# EAGLE library part 1388 (library matriLedWatch)
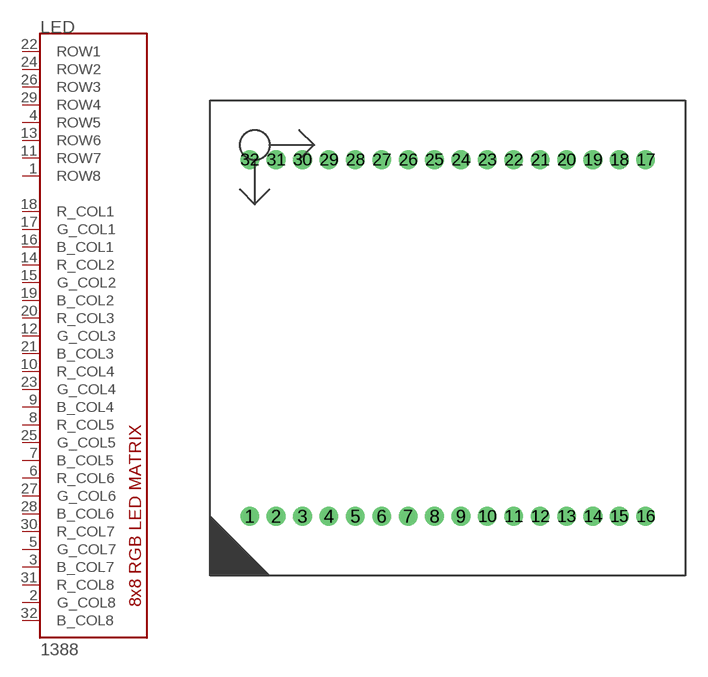
[diagram p0: symbol with the pads of 1388; footprint 1388]

Designator prefix LED

## 1388  [1388]
1  ROW8
2  G_COL8
3  B_COL7
4  ROW5
5  G_COL7
6  R_COL6
7  B_COL5
8  R_COL5
9  B_COL4
10  R_COL4
11  ROW7
12  G_COL3
13  ROW6
14  R_COL2
15  G_COL2
16  B_COL1
17  G_COL1
18  R_COL1
19  B_COL2
20  R_COL3
21  B_COL3
22  ROW1
23  G_COL4
24  ROW2
25  G_COL5
26  ROW3
27  G_COL6
28  B_COL6
29  ROW4
30  R_COL7
31  R_COL8
32  B_COL8

## Footprint 1388 (pad centres in mm)
drill 0.75 round: 1 -13.335,-12; 2 -11.557,-12; 3 -9.779,-12; 4 -8.001,-12; 5 -6.223,-12; 6 -4.445,-12; 7 -2.667,-12; 8 -0.889,-12; 9 0.889,-12; 10 2.667,-12; 11 4.445,-12; 12 6.223,-12; 13 8.001,-12; 14 9.779,-12; 15 11.557,-12; 16 13.335,-12; 17 13.335,12; 18 11.557,12; 19 9.779,12; 20 8.001,12; 21 6.223,12; 22 4.445,12; 23 2.667,12; 24 0.889,12; 25 -0.889,12; 26 -2.667,12; 27 -4.445,12; 28 -6.223,12; 29 -8.001,12; 30 -9.779,12; 31 -11.557,12; 32 -13.335,12